# EAGLE library part SAW (library AP_SAW)
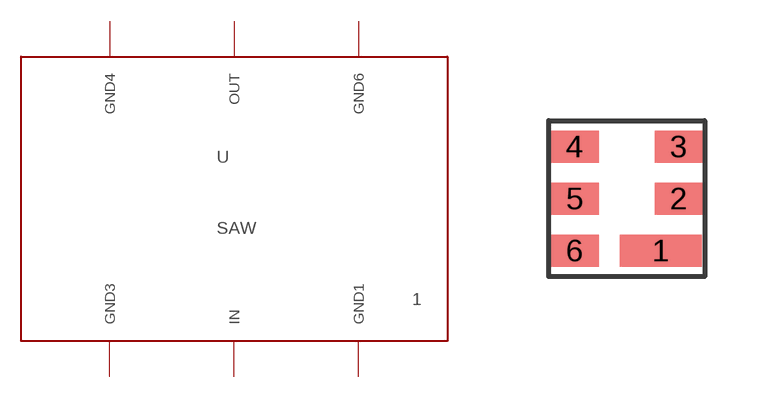
[diagram p0: symbol with the pads of SAW; footprint SAW]

Designator prefix -

## SAWSAW_NEW  [SAW]
1  GND1
2  OUT
3  GND4
4  GND3
5  IN
6  GND6

## Footprint SAW (pad centres in mm)
smd 2.05 x 0.8: 1 0.85,-1.3
smd 1.2 x 0.8: 2 1.3,0; 3 1.3,1.3; 4 -1.3,1.3; 5 -1.3,0; 6 -1.3,-1.3